# Altium schematic symbol library LT5560EDD#PBF.Schlib: 1 symbol
Pins are listed as number, name and electrical type; pins without a type are passive.

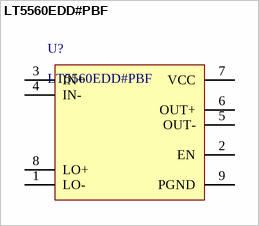
[diagram p0: symbol LT5560EDD#PBF]

## LT5560EDD#PBF
designator U?
RF Mixer IC CATV, DBS, PHS, UHF, VHF Up/Down Converter 10kHz ~ 4GHz 8-DFN (3x3)
pins: 1 LO-, 2 EN, 3 IN+, 4 IN-, 5 OUT-, 6 OUT+, 7 VCC, 8 LO+, 9 PGND